# EAGLE library part MY_FTDI_CONVERTER (library smylbr[Conflict])
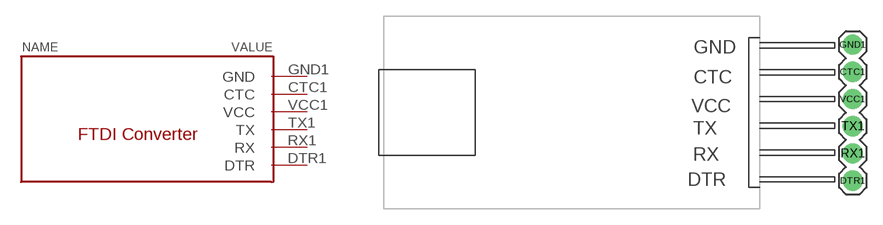
[diagram p2: symbol with the pads of FTDI_CONVERTER; footprint FTDI_CONVERTER]

Designator prefix -

## MY_FTDI_CONVERTER  [FTDI_CONVERTER]
CTC1  CTC
DTR1  DTR
GND1  GND
RX1  RX
TX1  TX
VCC1  VCC

## Footprint FTDI_CONVERTER (pad centres in mm)
drill 1.016 pad 1.88: CTC1 3.18,1.66; DTR1 3.18,-8.5; GND1 3.18,4.2; RX1 3.18,-5.96; TX1 3.18,-3.42; VCC1 3.18,-0.88